# EAGLE library part LEVELSHIFTER (library parts)
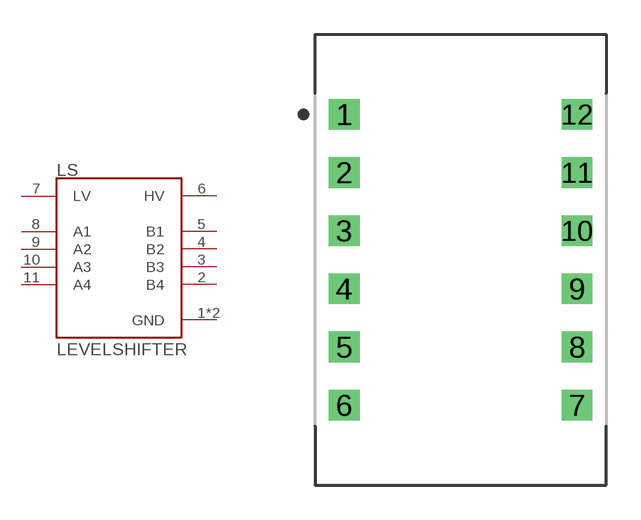
[diagram p0: symbol with the pads of DIP1016W53P254L1969H508Q12B; footprint DIP1016W53P254L1969H508Q12B]

Designator prefix LS

## LEVELSHIFTERDIPMODULE-14  [DIP1016W53P254L1969H508Q12B]
1  GND  pwr
2  B4
3  B3
4  B2
5  B1
6  HV  pwr
7  LV  pwr
8  A1
9  A2
10  A3
11  A4
12  GND  pwr

## Footprint DIP1016W53P254L1969H508Q12B (pad centres in mm)
12-DIP, 2.54 mm (0.10 in) pitch, 10.16 mm (0.40 in) span, 19.69 X 12.70 X 5.08 mm body 12-pin DIP package with 2.54 mm (0.10 in) pitch, 10.16 mm (0.40 in) span with body size 19.69 X 12.70 X 5.08 mm
drill 0.743 pad 1.343 square: 1 -5.08,6.35; 2 -5.08,3.81; 3 -5.08,1.27; 4 -5.08,-1.27; 5 -5.08,-3.81; 6 -5.08,-6.35; 7 5.08,-6.35; 8 5.08,-3.81; 9 5.08,-1.27; 10 5.08,1.27; 11 5.08,3.81; 12 5.08,6.35